# EAGLE library part CTS_742C163_RES_ARRAY_8_CIRCUITS_0603 (library Nwazet.Go)
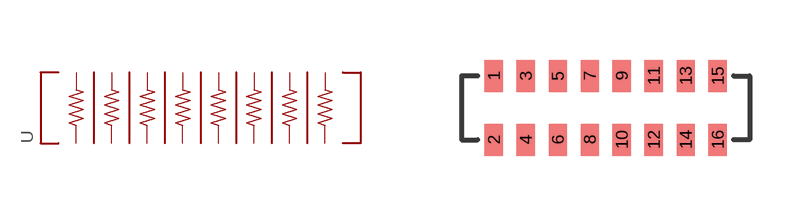
[diagram p9: symbol with the pads of CTS_742C163_RES_ARRAY_8_CIRCUITS_0603; footprint CTS_742C163_RES_ARRAY_8_CIRCUITS_0603]

Designator prefix -

## CTS_742C163_RES_ARRAY_8_CIRCUITS_0603  [CTS_742C163_RES_ARRAY_8_CIRCUITS_0603]
1  1  pas
2  2  pas
3  3  pas
4  4  pas
5  5  pas
6  6  pas
7  7  pas
8  8  pas
9  9  pas
10  10  pas
11  11  pas
12  12  pas
13  13  pas
14  14  pas
15  15  pas
16  16  pas

## Footprint CTS_742C163_RES_ARRAY_8_CIRCUITS_0603 (pad centres in mm)
smd 0.45 x 0.8: 1 -2.8,0.8; 2 -2.8,-0.8; 3 -2,0.8; 4 -2,-0.8; 5 -1.2,0.8; 6 -1.2,-0.8; 7 -0.4,0.8; 8 -0.4,-0.8; 9 0.4,0.8; 10 0.4,-0.8; 11 1.2,0.8; 12 1.2,-0.8; 13 2,0.8; 14 2,-0.8; 15 2.8,0.8; 16 2.8,-0.8